# Altium schematic symbol library LituLib.SchLib: 56 symbols
Pins are listed as number, name and electrical type; pins without a type are passive.

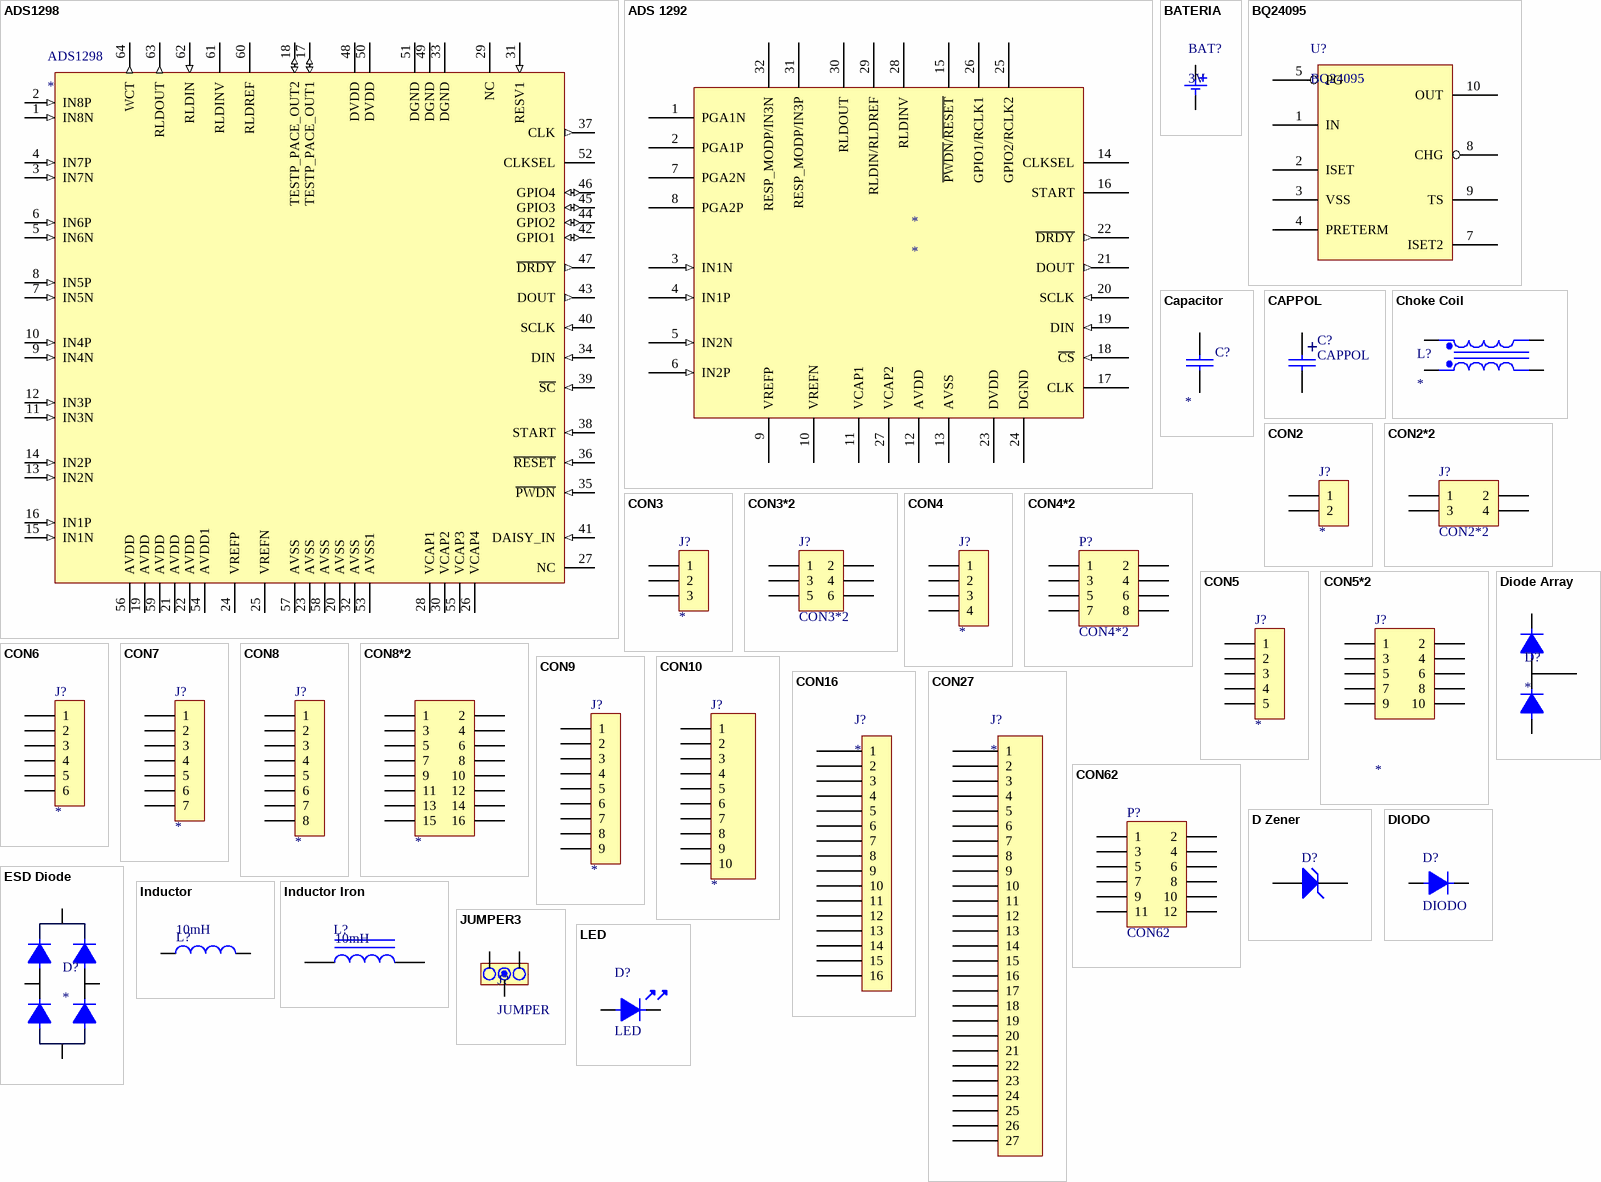
[diagram p0: symbols ADS1298 to LED]

## ADS1298
designator ADS1298
footprint PAG64
pins: 1 IN8N (in) "Mono differential output", 2 IN8P (in) "Mono differential output", 3 IN7N (in) "Audio left line output", 4 IN7P (in) "Audio right line output", 5 IN6N (in) "Headphone amplifier left output", 6 IN6P (in) "Headphone amplifier right output", 7 IN5N (in) "X-position input", 8 IN5P (in) "Y-position input", 9 IN4N (in) "X+ position input", 10 IN4P (in) "Y+ position input", 11 IN3N (in) "X+ position input", 12 IN3P (in) "Y+ position input", 13 IN2N (in) "X+ position input", 14 IN2P (in) "Y+ position input", 15 IN1N (in) "X+ position input", 16 IN1P (in) "Y+ position input", 17 TESTP_PACE_OUT1 (io) "Audio codec negative reference voltage", 18 TESTP_PACE_OUT2 (io) "Audio codec negative reference voltage", 19 AVDD (power) "Audio codec negative reference voltage", 20 AVSS (power) "Audio codec negative reference voltage", 21 AVDD (power) "Audio codec negative reference voltage", 22 AVDD (power) "Audio codec negative reference voltage", 23 AVSS (power) "Audio codec negative reference voltage", 24 VREFP "Audio codec negative reference voltage", 25 VREFN "Audio codec negative reference voltage", 26 VCAP4 "Audio codec negative reference voltage", 27 NC "Audio codec negative reference voltage", 28 VCAP1 "Audio codec negative reference voltage", 29 NC "Audio codec negative reference voltage", 30 VCAP2 "Audio codec negative reference voltage", 31 RESV1 (in) "Audio codec negative reference voltage", 32 AVSS (power) "Audio codec negative reference voltage", 33 DGND (power) "Device reset (active high)", 34 DIN (in) "Device reset (active high)", 35 ~{PWDN} (in) "Device reset (active high)", 36 ~{RESET} (in) "Device reset (active high)", 37 CLK (out), 38 START (in) "Device reset (active high)", 39 ~{SC} (in) "Device reset (active high)", 40 SCLK (in) "Device reset (active high)", 41 DAISY_IN (in) "Device reset (active high)", 42 GPIO1 (io) "Device reset (active high)", 43 DOUT (out) "Device reset (active high)", 44 GPIO2 (io) "Device reset (active high)", 45 GPIO3 (io) "Device reset (active high)", 46 GPIO4 (io) "Device reset (active high)", 47 ~{DRDY} (out) "Device reset (active high)", 48 DVDD (power) "Device reset (active high)", 49 DGND (power) "Common-mode voltage bypass capacitor", 50 DVDD (power) "Common-mode voltage bypass capacitor", 51 DGND (power) "Common-mode voltage bypass capacitor", 52 CLKSEL "Common-mode voltage bypass capacitor", 53 AVSS1 (power) "Common-mode voltage bypass capacitor", 54 AVDD1 (power) "Common-mode voltage bypass capacitor", 55 VCAP3 "Common-mode voltage bypass capacitor", 56 AVDD (power) "Common-mode voltage bypass capacitor", 57 AVSS (power) "Common-mode voltage bypass capacitor", 58 AVSS (power) "Common-mode voltage bypass capacitor", 59 AVDD (power) "Common-mode voltage bypass capacitor", 60 RLDREF "Right-channel audio ADC antialiasing filter capacitor", 61 RLDINV "Left-channel audio ADC antialiasing filter capacitor", 62 RLDIN (in) "Digital voltage supply", 63 RLDOUT (out) "Analog supply", 64 WCT (out) "Analog supply for headphone amplifier and touch screen circuitry"

## ADS 1292
designator *
footprint PBS32_M (32-Pin Thin Plastic Quad Flat Pack 0.5 mm Pitch, IPC Low Density)
pins: 1 PGA1N, 2 PGA1P, 3 IN1N (in), 4 IN1P (in), 5 IN2N (in), 6 IN2P (in), 7 PGA2N, 8 PGA2P, 9 VREFP, 10 VREFN, 11 VCAP1, 12 AVDD, 13 AVSS, 14 CLKSEL, 15 ~{PWDN}/~{RESET}, 16 START, 17 CLK, 18 ~{CS} (in), 19 DIN (in), 20 SCLK (in), 21 DOUT (out), 22 ~{DRDY} (out), 23 DVDD, 24 DGND, 25 GPIO2/RCLK2, 26 GPIO1/RCLK1, 27 VCAP2, 28 RLDINV, 29 RLDIN/RLDREF, 30 RLDOUT, 31 RESP_MODP/IN3P, 32 RESP_MODP/IN3N

## BATERIA
designator BAT?, comment 3V
BATERIA
footprint CR2032
pins: 1, 2

## BQ24095
designator U?
1A,  Single-Input,  Single  Cell  Li-Ion  and  Li-Pol  Battery  Charger
footprint MSOP10 (MSOP10 - 0.5mm pitch)
pins: 1 IN, 2 ISET, 3 VSS, 4 PRETERM, 5 PG, 7 ISET2, 8 CHG, 9 TS, 10 OUT

## Capacitor
designator C?  (value not drawn)
Dielectric: *; Voltage: *; Value: *
footprint 0805 (Pasivo 0805)
footprint 1206 (Pasivo 1206)
footprint 0603 (Footprint not found)
footprint CAP200
footprint CAP100
footprint CAP0.2
pins: 1, 2

## CAPPOL
designator C?
footprint CAP100RP
footprint CAP200RP
footprint CAP100RP2 (Footprint not found)
footprint CAP200RP2 (Body Diameter 12.5mm)
footprint CAP300RP
footprint 1206 (Pasivo 1206)
footprint CAP_SMD (Capacitor de 6.3x5.8)
pins: 1, 2
text: +

## Choke Coil
designator L?
footprint 1206-4 (1206 4 pin)
pins: 1 Pri+, 2 Pri-, 3 Sec+, 4 Sec-

## CON2
designator J?
footprint SIP2
footprint SIP2 90
footprint CR2032
pins: 1, 2

## CON2*2
designator J?
LatestRevisionDate: 17-Jul-2002; LatestRevisionNote: Re-released for DXP Platform.; Publisher: Altium Limited
signal-integrity model Connector
footprint SIP2*2
pins: 1, 2, 3, 4

## CON3
designator J?
footprint SIP3
footprint SIP3 90
pins: 1, 2, 3

## CON3*2
designator J?
footprint SIP3*2 (Footprint not found)
footprint SIP3*2 90
pins: 1, 2, 3, 4, 5, 6

## CON4
designator J?
Value: *
footprint SIP4
footprint SIP4 90
pins: 1, 2, 3, 4

## CON4*2
designator P?
Header, 4-Pin, Dual row; LatestRevisionDate: 17-Jul-2002; LatestRevisionNote: Re-released for DXP Platform.; Publisher: Altium Limited
signal-integrity model Connector
footprint SIP4*2
footprint SIP4*2 90
pins: 1, 2, 3, 4, 5, 6, 7, 8

## CON5
designator J?
footprint SIP5
footprint SIP5 90
pins: 1, 2, 3, 4, 5

## CON5*2
designator J?
footprint SIP5*2
footprint JTAG_CON
pins: 1, 2, 3, 4, 5, 6, 7, 8, 9, 10

## CON6
designator J?
footprint SIP6
footprint SIP6 90
pins: 1, 2, 3, 4, 5, 6

## CON7
designator J?
footprint SIP7
footprint SIP7 90
pins: 1, 2, 3, 4, 5, 6, 7

## CON8
designator J?
footprint SIP8
footprint SIP8 90
pins: 1, 2, 3, 4, 5, 6, 7, 8

## CON8*2
designator ?
footprint SIP8*2
pins: 1, 2, 3, 4, 5, 6, 7, 8, 9, 10, 11, 12, 13, 14, 15, 16

## CON9
designator J?
footprint SIP9
footprint SIP9 90
pins: 1, 2, 3, 4, 5, 6, 7, 8, 9

## CON10
designator J?
footprint SIP10
footprint SIP10 90
pins: 1, 2, 3, 4, 5, 6, 7, 8, 9, 10

## CON16
designator J?
footprint SIP16
pins: 1, 2, 3, 4, 5, 6, 7, 8, 9, 10, 11, 12, 13, 14, 15, 16

## CON27
designator J?
footprint SIP27
footprint SIP27 90
pins: 1, 2, 3, 4, 5, 6, 7, 8, 9, 10, 11, 12, 13, 14, 15, 16, 17, 18, 19, 20, 21, 22, 23, 24, 25, 26, 27

## CON62
designator P?
Header, 6-Pin, Dual row; LatestRevisionDate: 17-Jul-2002; LatestRevisionNote: Re-released for DXP Platform.; Publisher: Altium Limited
signal-integrity model Connector
footprint SIP6*2
pins: 1, 2, 3, 4, 5, 6, 7, 8, 9, 10, 11, 12

## D Zener
designator D?
Zener Diode; Published: 8-Jun-2000; LatestRevisionDate: 17-Jul-2002; LatestRevisionNote: Re-released for DXP Platform.; PackageReference: DIODE-0.7; Publisher: Altium Limited; PackageDescription: Diode, Thru-Hole; 2 Leads; 0.7 in Pin Spacing
footprint DIODE-0.7 (Diode, Thru-Hole; 2 Leads; 0.7 in Pin Spacing)
simulation model ZENER (Diode)
signal-integrity model D Zener
pins: 1 A, 2 K

## Diode Array
designator D?
BAV99
footprint SOT23
pins: 1, 2, 3

## DIODO
designator D?
footprint SMAK
footprint 1206K
footprint DO41
footprint SMBK
footprint SMCK
footprint DO-35 (Diode, Axial; Body 3.8 x 1.9 mm (LxDia. max), Lead Dia. 0.53 mm (max))
footprint DO-214AC (JEDEC DO214 variation AC. SMA)
pins: 1, 2

## ESD Diode
designator D?
ESD Protection
footprint SOT-143_M (SOT143, 4-Leads, Body 2.9x1.3mm, Pitch 1.9mm, Lead Span 2.5mm, IPC Low Density)
pins: 1, 2, 3, 4

## Inductor
designator L?  value 10mH
Inductor; Code_IEC: 1005; Published: 8-Jun-2000; LatestRevisionDate: 29-May-2009; LatestRevisionNote: IPC-7351 Footprint Added.; PackageReference: 0402-A; Publisher: Altium Limited; PackageDescription: Chip Inductor; Code_JEITA: 0402
footprint INDC1608L (Chip Inductor, Body 1.6x0.8mm, IPC High Density)
footprint 2029 (Chip Inductor, Body 2.0x1.2mm, IPC High Density)
footprint 0603 (Chip Inductor, Body 0.6x0.3mm, IPC High Density)
footprint INDC3216 (Chip Inductor, Body 3.2x1.6mm, IPC High Density)
footprint INDC4532 (Chip Inductor, Body 4.5x3.2mm, IPC High Density)
simulation model INDUCTOR (Inductor)
signal-integrity model Inductor
footprint IND400
footprint 1210
footprint RES300
pins: 1, 2

## Inductor Iron
designator L?  value 10mH
Magnetic-Core Inductor; Published: 24-Mar-1999; LatestRevisionDate: 17-Jul-2002; LatestRevisionNote: Re-released for DXP Platform.; PackageReference: AXIAL-0.9; Publisher: Altium Limited
footprint AXIAL-0.9 (Axial Device, Thru-Hole; 2 Leads; 0.9 in Pin Spacing)
simulation model INDUCTOR (Inductor)
signal-integrity model Inductor Iron
footprint 0805 (Pasivo 0805)
footprint 1206 (Pasivo 1206)
pins: 1, 2

## JUMPER3
designator J?, comment JUMPER
footprint JUMPER3
pins: 1, 2, 3

## LED
designator D?
footprint LED3
footprint LED5
footprint LED1206
footprint LED0805 (LED SMD 0805)
pins: 1, 2

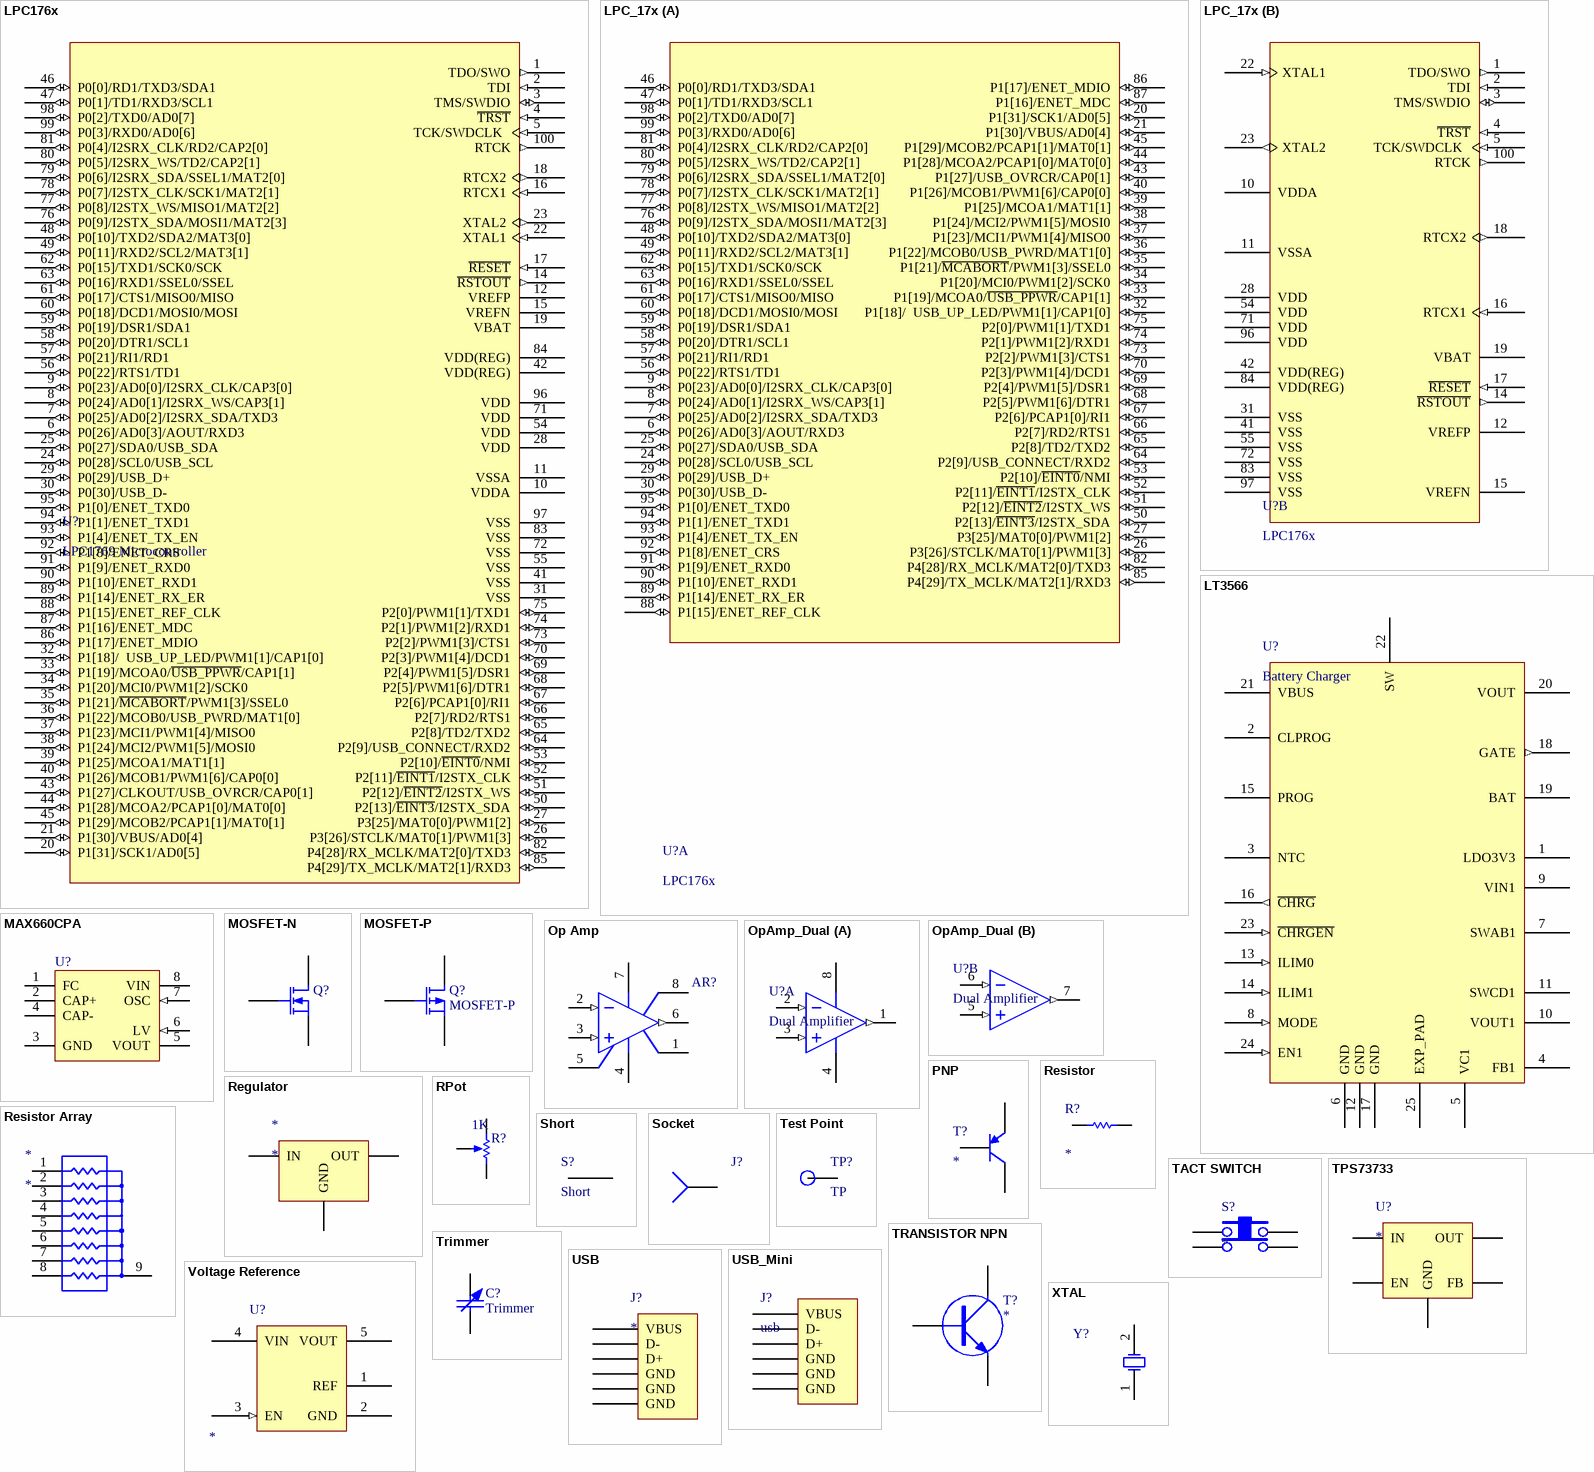
[diagram p1: symbols LPC176x to XTAL]

## LPC176x
designator U?, comment LPC1769 Microcontroller
footprint QFP100 (Thin QFP, 100-Leads, Body 14x14mm, Pitch 0.5mm, IPC Low Density)
pins: 1 TDO/SWO (out), 2 TDI (in), 3 TMS/SWDIO (io), 4 ~{TRST} (in), 5 TCK/SWDCLK  (in), 6 P0[26]/AD0[3]/AOUT/RXD3 (io), 7 P0[25]/AD0[2]/I2SRX_SDA/TXD3 (io), 8 P0[24]/AD0[1]/I2SRX_WS/CAP3[1] (io), 9 P0[23]/AD0[0]/I2SRX_CLK/CAP3[0] (io), 10 VDDA (power), 11 VSSA (power), 12 VREFP, 14 ~{RSTOUT} (out), 15 VREFN, 16 RTCX1 (in), 17 ~{RESET} (in), 18 RTCX2 (out), 19 VBAT, 20 P1[31]/SCK1/AD0[5] (io), 21 P1[30]/VBUS/AD0[4] (io), 22 XTAL1 (in), 23 XTAL2 (out), 24 P0[28]/SCL0/USB_SCL (io), 25 P0[27]/SDA0/USB_SDA (io), 26 P3[26]/STCLK/MAT0[1]/PWM1[3] (io), 27 P3[25]/MAT0[0]/PWM1[2] (io), 28 VDD (power), 29 P0[29]/USB_D+ (io), 30 P0[30]/USB_D- (io), 31 VSS (power), 32 P1[18]/  USB_UP_LED/PWM1[1]/CAP1[0] (io), 33 P1[19]/MCOA0/~{USB_PPWR}/CAP1[1] (io), 34 P1[20]/MCI0/PWM1[2]/SCK0 (io), 35 P1[21]/~{MCABORT}/PWM1[3]/SSEL0 (io), 36 P1[22]/MCOB0/USB_PWRD/MAT1[0] (io), 37 P1[23]/MCI1/PWM1[4]/MISO0 (io), 38 P1[24]/MCI2/PWM1[5]/MOSI0 (io), 39 P1[25]/MCOA1/MAT1[1] (io), 40 P1[26]/MCOB1/PWM1[6]/CAP0[0] (io), 41 VSS (power), 42 VDD(REG) (power), 43 P1[27]/CLKOUT/USB_OVRCR/CAP0[1] (io), 44 P1[28]/MCOA2/PCAP1[0]/MAT0[0] (io), 45 P1[29]/MCOB2/PCAP1[1]/MAT0[1] (io), 46 P0[0]/RD1/TXD3/SDA1 (io), 47 P0[1]/TD1/RXD3/SCL1 (io), 48 P0[10]/TXD2/SDA2/MAT3[0] (io), 49 P0[11]/RXD2/SCL2/MAT3[1] (io), 50 P2[13]/~{EINT3}/I2STX_SDA (io), 51 P2[12]/~{EINT2}/I2STX_WS (io), 52 P2[11]/~{EINT1}/I2STX_CLK (io), 53 P2[10]/~{EINT0}/NMI (io), 54 VDD (power), 55 VSS (power), 56 P0[22]/RTS1/TD1 (io), 57 P0[21]/RI1/RD1 (io), 58 P0[20]/DTR1/SCL1 (io), 59 P0[19]/DSR1/SDA1 (io), 60 P0[18]/DCD1/MOSI0/MOSI (io), 61 P0[17]/CTS1/MISO0/MISO (io), 62 P0[15]/TXD1/SCK0/SCK (io), 63 P0[16]/RXD1/SSEL0/SSEL (io), 64 P2[9]/USB_CONNECT/RXD2 (io), 65 P2[8]/TD2/TXD2 (io), 66 P2[7]/RD2/RTS1 (io), 67 P2[6]/PCAP1[0]/RI1 (io), 68 P2[5]/PWM1[6]/DTR1 (io), 69 P2[4]/PWM1[5]/DSR1 (io), 70 P2[3]/PWM1[4]/DCD1 (io), 71 VDD (power), 72 VSS (power), 73 P2[2]/PWM1[3]/CTS1 (io), 74 P2[1]/PWM1[2]/RXD1 (io), 75 P2[0]/PWM1[1]/TXD1 (io), 76 P0[9]/I2STX_SDA/MOSI1/MAT2[3] (io), 77 P0[8]/I2STX_WS/MISO1/MAT2[2] (io), 78 P0[7]/I2STX_CLK/SCK1/MAT2[1] (io), 79 P0[6]/I2SRX_SDA/SSEL1/MAT2[0] (io), 80 P0[5]/I2SRX_WS/TD2/CAP2[1] (io), 81 P0[4]/I2SRX_CLK/RD2/CAP2[0] (io), 82 P4[28]/RX_MCLK/MAT2[0]/TXD3 (io), 83 VSS (power), 84 VDD(REG) (power), 85 P4[29]/TX_MCLK/MAT2[1]/RXD3 (io), 86 P1[17]/ENET_MDIO (io), 87 P1[16]/ENET_MDC (io), 88 P1[15]/ENET_REF_CLK (io), 89 P1[14]/ENET_RX_ER (io), 90 P1[10]/ENET_RXD1 (io), 91 P1[9]/ENET_RXD0 (io), 92 P1[8]/ENET_CRS (io), 93 P1[4]/ENET_TX_EN (io), 94 P1[1]/ENET_TXD1 (io), 95 P1[0]/ENET_TXD0 (io), 96 VDD (power), 97 VSS (power), 98 P0[2]/TXD0/AD0[7] (io), 99 P0[3]/RXD0/AD0[6] (io), 100 RTCK (out)

## LPC_17x
designator U?, comment LPC176x
LPC176x Microcontroller
footprint QFP100 (Thin QFP, 100-Leads, Body 14x14mm, Pitch 0.5mm, IPC Low Density)
part A pins: 6 P0[26]/AD0[3]/AOUT/RXD3 (io), 7 P0[25]/AD0[2]/I2SRX_SDA/TXD3 (io), 8 P0[24]/AD0[1]/I2SRX_WS/CAP3[1] (io), 9 P0[23]/AD0[0]/I2SRX_CLK/CAP3[0] (io), 20 P1[31]/SCK1/AD0[5] (io), 21 P1[30]/VBUS/AD0[4] (io), 24 P0[28]/SCL0/USB_SCL (io), 25 P0[27]/SDA0/USB_SDA (io), 26 P3[26]/STCLK/MAT0[1]/PWM1[3] (io), 27 P3[25]/MAT0[0]/PWM1[2] (io), 29 P0[29]/USB_D+ (io), 30 P0[30]/USB_D- (io), 32 P1[18]/  USB_UP_LED/PWM1[1]/CAP1[0] (io), 33 P1[19]/MCOA0/~{USB_PPWR}/CAP1[1] (io), 34 P1[20]/MCI0/PWM1[2]/SCK0 (io), 35 P1[21]/~{MCABORT}/PWM1[3]/SSEL0 (io), 36 P1[22]/MCOB0/USB_PWRD/MAT1[0] (io), 37 P1[23]/MCI1/PWM1[4]/MISO0 (io), 38 P1[24]/MCI2/PWM1[5]/MOSI0 (io), 39 P1[25]/MCOA1/MAT1[1] (io), 40 P1[26]/MCOB1/PWM1[6]/CAP0[0] (io), 43 P1[27]/USB_OVRCR/CAP0[1] (io), 44 P1[28]/MCOA2/PCAP1[0]/MAT0[0] (io), 45 P1[29]/MCOB2/PCAP1[1]/MAT0[1] (io), 46 P0[0]/RD1/TXD3/SDA1 (io), 47 P0[1]/TD1/RXD3/SCL1 (io), 48 P0[10]/TXD2/SDA2/MAT3[0] (io), 49 P0[11]/RXD2/SCL2/MAT3[1] (io), 50 P2[13]/~{EINT3}/I2STX_SDA (io), 51 P2[12]/~{EINT2}/I2STX_WS (io), 52 P2[11]/~{EINT1}/I2STX_CLK (io), 53 P2[10]/~{EINT0}/NMI (io), 56 P0[22]/RTS1/TD1 (io), 57 P0[21]/RI1/RD1 (io), 58 P0[20]/DTR1/SCL1 (io), 59 P0[19]/DSR1/SDA1 (io), 60 P0[18]/DCD1/MOSI0/MOSI (io), 61 P0[17]/CTS1/MISO0/MISO (io), 62 P0[15]/TXD1/SCK0/SCK (io), 63 P0[16]/RXD1/SSEL0/SSEL (io), 64 P2[9]/USB_CONNECT/RXD2 (io), 65 P2[8]/TD2/TXD2 (io), 66 P2[7]/RD2/RTS1 (io), 67 P2[6]/PCAP1[0]/RI1 (io), 68 P2[5]/PWM1[6]/DTR1 (io), 69 P2[4]/PWM1[5]/DSR1 (io), 70 P2[3]/PWM1[4]/DCD1 (io), 73 P2[2]/PWM1[3]/CTS1 (io), 74 P2[1]/PWM1[2]/RXD1 (io), 75 P2[0]/PWM1[1]/TXD1 (io), 76 P0[9]/I2STX_SDA/MOSI1/MAT2[3] (io), 77 P0[8]/I2STX_WS/MISO1/MAT2[2] (io), 78 P0[7]/I2STX_CLK/SCK1/MAT2[1] (io), 79 P0[6]/I2SRX_SDA/SSEL1/MAT2[0] (io), 80 P0[5]/I2SRX_WS/TD2/CAP2[1] (io), 81 P0[4]/I2SRX_CLK/RD2/CAP2[0] (io), 82 P4[28]/RX_MCLK/MAT2[0]/TXD3 (io), 85 P4[29]/TX_MCLK/MAT2[1]/RXD3 (io), 86 P1[17]/ENET_MDIO (io), 87 P1[16]/ENET_MDC (io), 88 P1[15]/ENET_REF_CLK (io), 89 P1[14]/ENET_RX_ER (io), 90 P1[10]/ENET_RXD1 (io), 91 P1[9]/ENET_RXD0 (io), 92 P1[8]/ENET_CRS (io), 93 P1[4]/ENET_TX_EN (io), 94 P1[1]/ENET_TXD1 (io), 95 P1[0]/ENET_TXD0 (io), 98 P0[2]/TXD0/AD0[7] (io), 99 P0[3]/RXD0/AD0[6] (io)
part B pins: 1 TDO/SWO (out), 2 TDI (in), 3 TMS/SWDIO (io), 4 ~{TRST} (in), 5 TCK/SWDCLK  (in), 10 VDDA (power), 11 VSSA (power), 12 VREFP, 14 ~{RSTOUT} (out), 15 VREFN, 16 RTCX1 (in), 17 ~{RESET} (in), 18 RTCX2 (out), 19 VBAT, 22 XTAL1 (in), 23 XTAL2 (out), 28 VDD (power), 31 VSS (power), 41 VSS (power), 42 VDD(REG) (power), 54 VDD (power), 55 VSS (power), 71 VDD (power), 72 VSS (power), 83 VSS (power), 84 VDD(REG) (power), 96 VDD (power), 97 VSS (power), 100 RTCK (out)

## LT3566
designator U?, comment Battery Charger
footprint QFN24 (24-Pin Plastic Quad Flat No-Lead 0.5 mm Pitch, IPC Low Density)
pins: 1 LDO3V3 (power), 2 CLPROG, 3 NTC, 4 FB1, 5 VC1, 6 GND (power), 7 SWAB1, 8 MODE (in), 9 VIN1 (power), 10 VOUT1 (power), 11 SWCD1, 12 GND (power), 13 ILIM0 (in), 14 ILIM1 (in), 15 PROG, 16 ~{CHRG} (out), 17 GND (power), 18 GATE (out), 19 BAT (power), 20 VOUT (power), 21 VBUS (power), 22 SW, 23 ~{CHRGEN} (in), 24 EN1 (in), 25 EXP_PAD (power)

## MAX660CPA
designator U?
CMOS Monolithic Voltage Converter; Published: 16-Jan-2001; LatestRevisionDate: 29-May-2009; LatestRevisionNote: Component Body Added.; DatasheetVersion: Sep-1996; PackageVersion: RevB, 21-0043; PackageReference: PA8; Publisher: Altium Limited; PackageDescription: DIP, 8-Pin, Row Spacing 7.62 mm, Pitch 2.54 mm; Code_JEDEC: MS-001-AB; ComponentLink1Description: Manufacturer Link; ComponentLink1URL: http://www.maxim-ic.com/; ComponentLink2Description: Datasheet; ComponentLink2URL: http://pdfserv.maxim-ic.com/en/ds/MAX660.pdf
footprint DIP8
3D model PA8 (DIP, 8-Pin, Row Spacing 7.62 mm, Pitch 2.54 mm)
pins: 1 FC, 2 CAP+, 3 GND (power), 4 CAP-, 5 VOUT (power), 6 LV (in), 7 OSC (in), 8 VIN (power)

## MOSFET-N
designator Q?
N-Channel MOSFET; Published: 8-Jun-2000; LatestRevisionDate: 17-Jul-2002; LatestRevisionNote: Re-released for DXP Platform.; PackageVersion: 1995/1996; PackageReference: E3; Publisher: Altium Limited; PackageDescription: TO, Flat Index; 3 In-Line, Axial Leads; Body Dia. 4.6mm; Lead Dia. 0.5 mm (max)
footprint E3 (TO, Flat Index; 3 In-Line, Axial Leads; Body Dia. 4.6mm; Lead Dia. 0.5 mm (max))
simulation model NMOS (MOSFET-N)
pins: 1 D, 2 G, 3 S

## MOSFET-P
designator Q?
P-Channel MOSFET; Published: 8-Jun-2000; LatestRevisionDate: 17-Jul-2002; LatestRevisionNote: Re-released for DXP Platform.; PackageVersion: 1995/1996; PackageReference: E3; Publisher: Altium Limited; PackageDescription: TO, Flat Index; 3 In-Line, Axial Leads; Body Dia. 4.6mm; Lead Dia. 0.5 mm (max)
footprint E3 (TO, Flat Index; 3 In-Line, Axial Leads; Body Dia. 4.6mm; Lead Dia. 0.5 mm (max))
simulation model PMOS (MOSFET-P)
footprint SOT23
footprint TO92
pins: 1 D, 2 G, 3 S

## Op Amp
designator AR?
FET Operational Amplifier; Published: 8-Jun-2000; LatestRevisionDate: 17-Jul-2002; LatestRevisionNote: Re-released for DXP Platform.; DatasheetVersion: REV. B; PackageVersion: 1990; PackageReference: H-08A; Publisher: Altium Limited; PackageDescription: Can; 8 Leads; Pin Circle Dia. 5.08 mm; Lead Dia. 0.53 mm (max); ComponentLink1Description: Manufacturer Link; ComponentLink1URL: http://www.analog.com/
footprint H-08A (Can; 8 Leads; Pin Circle Dia. 5.08 mm; Lead Dia. 0.53 mm (max))
simulation model AD645A (Spice Subcircuit)
footprint SOIC8
footprint DIP8
pins: 1 OS NUL, 2 IN- (in), 3 IN+ (in), 4 V- (power), 5 OS NUL, 6 OUT (out), 7 V+ (power), 8 TAB

## OpAmp_Dual
designator U?, comment Dual Amplifier
Micro  Power CMOS operational amplifier
footprint SOIC8
footprint DIP8
part A pins: 1 OUT (out), 2 IN- (in), 3 IN+ (in), 4 VSS (power), 8 VDD (power)
part B pins: 5 IN+ (in), 6 IN- (in), 7 OUT (out)

## PNP
designator T?
footprint TO92
footprint TO-92 (TO-92 Inline Pins)
footprint TO-220
footprint SOT23
pins: 1 C, 2 B, 3 E

## Regulator
designator *
footprint SOT23
footprint TO92
pins: 1 GND, 2 OUT, 3 IN

## Resistor
designator R?  (value not drawn)
Value: *
footprint 0805 (Pasivo 0805)
footprint RES400
footprint RES300
footprint 1206 (Pasivo 1206)
footprint Model Name (Footprint not found)
footprint 0603 (Pasivo 0603)
pins: 1, 2

## Resistor Array
designator *
footprint Resistor Array 8 (Array de resistores de 9 terminales)
pins: 1, 2, 3, 4, 5, 6, 7, 8, 9

## RPot
designator R?  value 1K
Potentiometer; Sim Note: Enter the Resistance value and the set point into parameter fields.; Set Position: 0.5; Published: 8-Jun-2000; LatestRevisionDate: 17-Jul-2002; LatestRevisionNote: Re-released for DXP Platform.; PackageReference: VR5; Publisher: Altium Limited
footprint PRESET V
simulation model POT (Potentiometer)
pins: 1 TOP, 2 BOT, 3 TAP
1 alternate drawing of the same symbol

## Short
designator S?  (net tie, no BOM)
Corto, Une 2 pads en el toplayer
footprint Short
pins: 1, 2

## Socket
designator J?
Socket; LatestRevisionDate: 17-Jul-2002; LatestRevisionNote: Re-released for DXP Platform.; Publisher: Altium Limited
footprint PIN1 (Connector; Socket)
signal-integrity model Connector
footprint PIN1 (Connector; Plug)
pins: 1

## TACT SWITCH
designator S?
footprint TACTSWITCH
pins: 1, 2, 3, 4

## Test Point
designator TP?, comment TP
Test Point
footprint PIN1 (Connector; Plug)
footprint PAD (Test Point Pad)
pins: 1

## TPS73733
designator U?
Low-Dropout Regulator
footprint TPS73733
pins: 1 IN, 2 OUT, 3 GND, 4 FB, 5 EN

## TRANSISTOR NPN
designator T?
footprint SOT23
footprint TO92
pins: 1 B, 2 E, 3 C

## Trimmer
designator C?
footprint Trimmer (Capacitive Trimmer)
footprint Trimmer Cap SMD
pins: 1, 2

## USB
designator J?
footprint USBB-S-X-X-TH
footprint USB_Micro-B_USB
pins: 1 VBUS, 2 D-, 3 D+, 4 GND, 5 GND, 6 GND

## USB_Mini
designator J?, comment usb
footprint USB_Mini_TipoB (USB MINI SMD TIPO B)
pins: 1 VBUS, 2 D-, 3 D+, 4 GND, 5 GND, 6 GND

## Voltage Reference
designator U?  (value not drawn)
Part: *
footprint SOT23-5 (SOT-23/SC-74A; 5 Leads; Body 3 x 3 mm, inc. leads (LxW max))
pins: 1 REF, 2 GND (power), 3 EN (in), 4 VIN (power), 5 VOUT (power)

## XTAL
designator Y?
Crystal Oscillator; Published: 8-Jun-2000; LatestRevisionDate: 17-Jul-2002; LatestRevisionNote: Re-released for DXP Platform.; PackageReference: R38; Publisher: Altium Limited; PackageDescription: Crystal, Thru-Hole; 2 Leads; Body 3.1 x 8.2 mm (Dia.xH)
simulation model XTAL (Spice Subcircuit)
footprint CRISTAL CILINDRICO
footprint CRISTAL PERFIL
footprint Cristal SMD
footprint Cristal SMD/TH
pins: 1 OSC1, 2 OSC2